# EAGLE library part 693043020611 (library InputOutputIO (rev18a))
WR-CRD_Nano SIM_Push & Pull_SMT Nano SIM Push & Pull Type SMT - 1.20mm Height - T&R with Mylar for Pick & Place Code:Con_I-O_COM_CRD_SIM_Nano_693043020611_693043020611 <http://katalog.we-online.de/media/images/eican/Con_I-O_COM_CRD_SIM_Nano_693043020611_pf2.jpg> Details see: http://katalog.we-online.de/en/em/CRD_NANO_SIM_PUSH_AND_PULL/693_043_020_611 Created 2014-12-22, aslant tao 2014 (C) Würth Elektronik
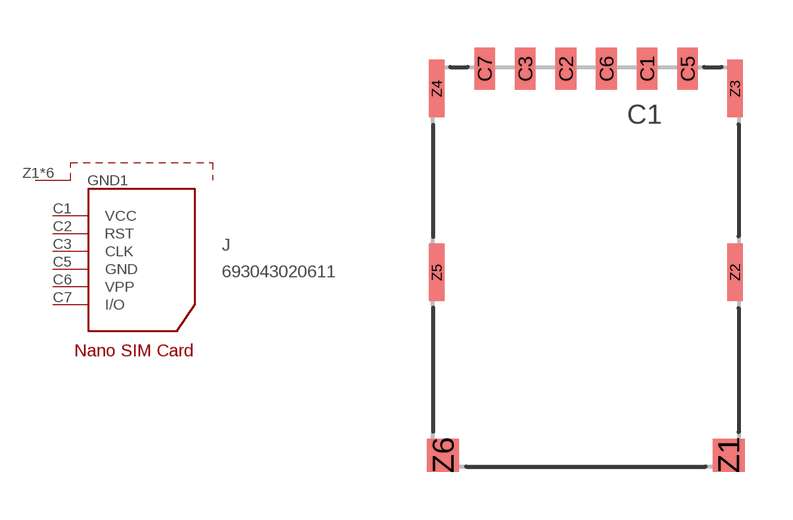
[diagram p144: symbol with the pads of 693043020611; footprint 693043020611]

Designator prefix J

## 693043020611  [693043020611]
C1  VCC
C2  RST
C3  CLK
C5  GND
C6  VPP
C7  I/O
Z1  GND1
Z2  GND1
Z3  GND1
Z4  GND1
Z5  GND1
Z6  GND1

## Footprint 693043020611 (pad centres in mm)
smd 0.65 x 1.3: C1 1.91,-0.05; C2 -0.63,-0.05; C3 -1.9,-0.05; C5 3.18,-0.05; C6 0.64,-0.05; C7 -3.17,-0.05
smd 1 x 1.03: Z1 4.465,-12.14; Z6 -4.465,-12.14
smd 0.48 x 1.8: Z2 4.66,-6.42; Z3 4.66,-0.67; Z4 -4.67,-0.67; Z5 -4.67,-6.42